# Altium schematic symbol library 1.6 - MAX系列芯片.SchLib: 28 symbols
Pins are listed as number, name and electrical type; pins without a type are passive.

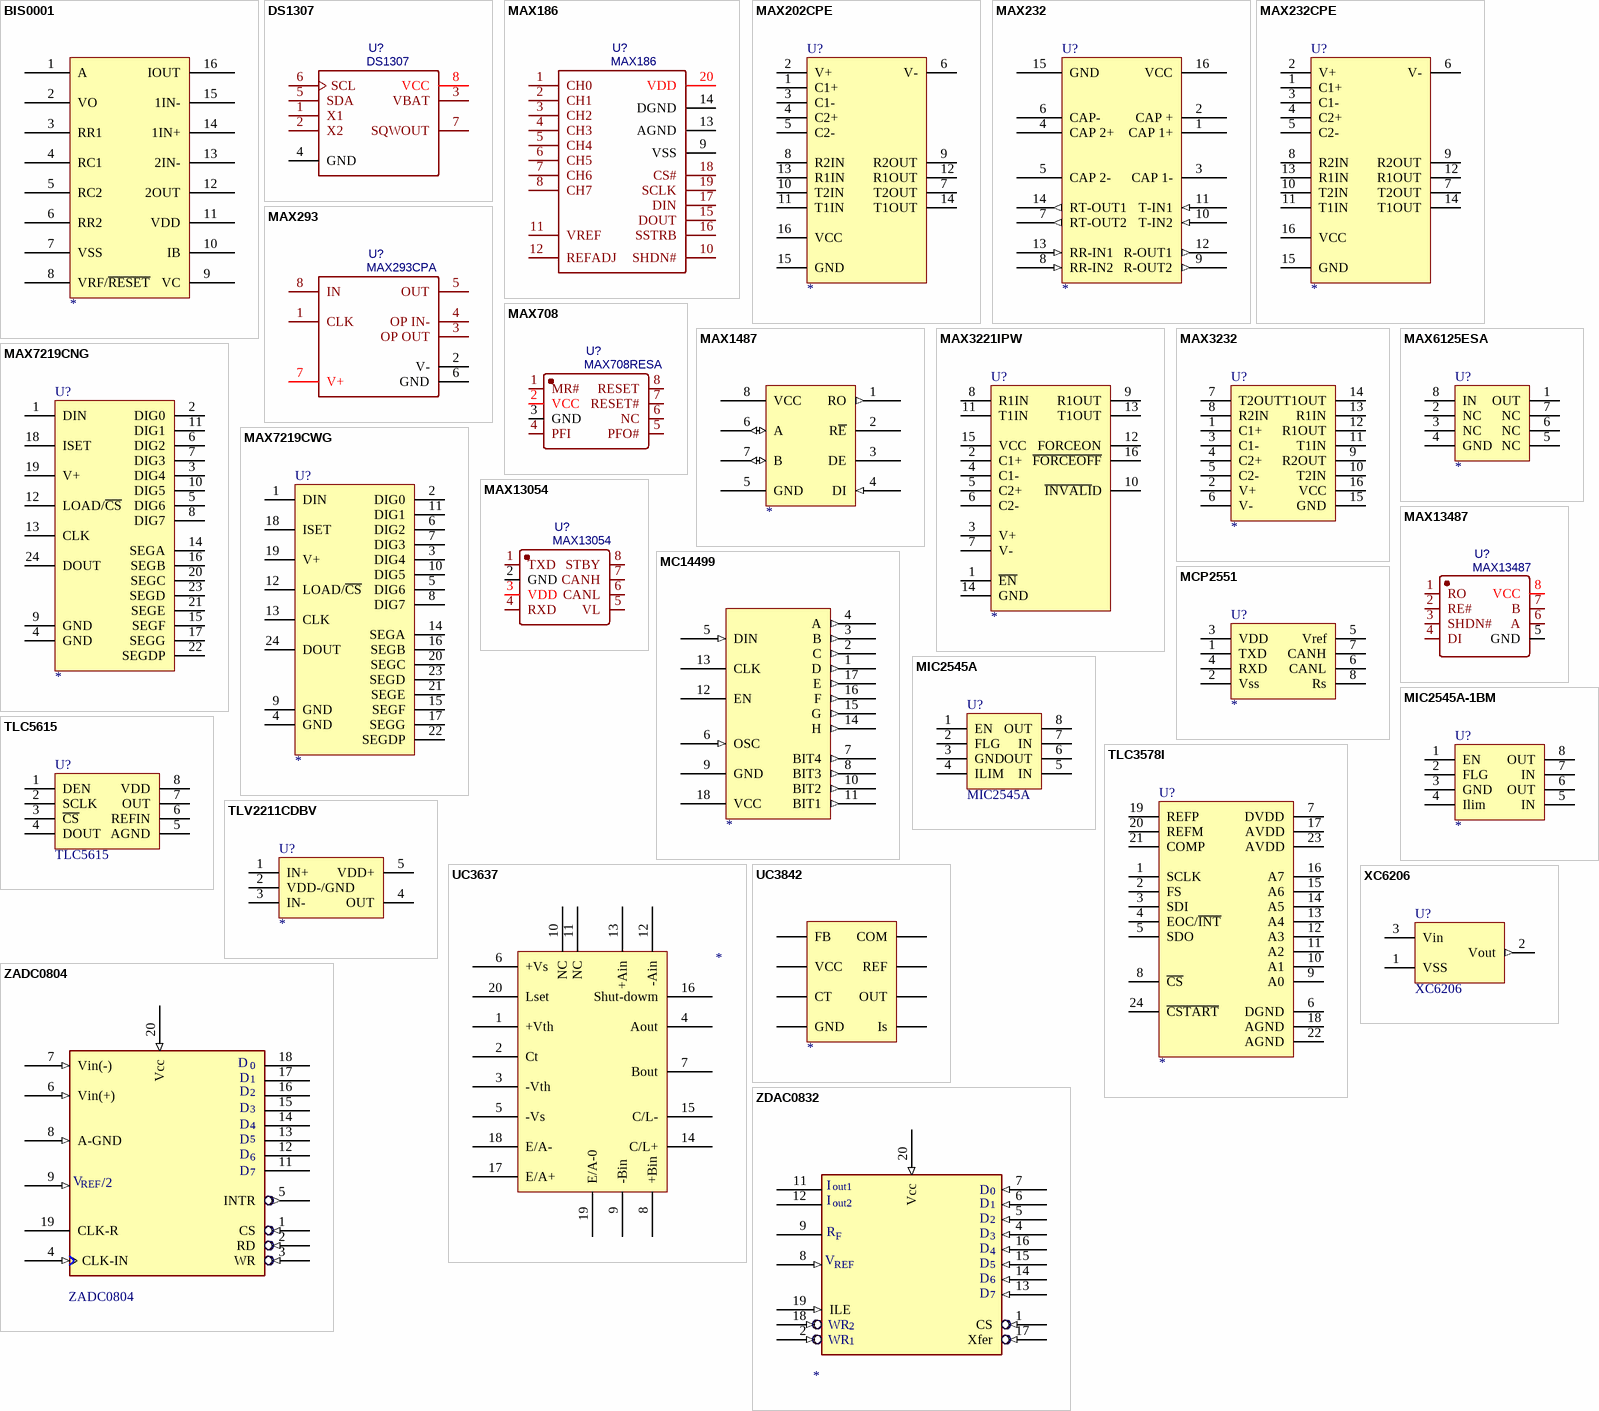
[diagram p0: symbols BIS0001 to ZDAC0832]

## BIS0001
designator ?
封装库来自淘宝卖家ID：黄晶宝石: 其他店铺购入均为盗版封装库，请立即申请退款，本店现金奖励20~200元
footprint SOP16_N (10.3*6.2*1.8mm（长宽高）封装库来自淘宝卖家 ID：黄晶宝石)
pins: 1 A, 2 VO, 3 RR1, 4 RC1, 5 RC2, 6 RR2, 7 VSS, 8 VRF/~{RESET}, 9 VC, 10 IB, 11 VDD, 12 2OUT, 13 2IN-, 14 1IN+, 15 1IN-, 16 IOUT

## DS1307
designator U?
封装库来自淘宝卖家ID：黄晶宝石: 其他店铺购入均为盗版封装库，请立即申请退款，本店现金奖励20~200元
footprint DIP8-300 (9.4*7.6*3.8(长宽高）)
pins: 1 X1, 2 X2, 3 VBAT, 4 GND, 5 SDA, 6 SCL, 7 SQWOUT, 8 VCC

## MAX186
designator U?
BOM_Manufacturer Part: MAX186CCWP; 封装库来自淘宝卖家ID：黄晶宝石: 其他店铺购入均为盗版封装库，请立即申请退款，本店现金奖励20~200元
footprint SOIC-20W (封装库来自淘宝卖家 ID：黄晶宝石)
pins: 1 CH0, 2 CH1, 3 CH2, 4 CH3, 5 CH4, 6 CH5, 7 CH6, 8 CH7, 9 VSS, 10 SHDN#, 11 VREF, 12 REFADJ, 13 AGND, 14 DGND, 15 DOUT, 16 SSTRB, 17 DIN, 18 CS#, 19 SCLK, 20 VDD

## MAX202CPE
designator U?
通讯IC; 封装库来自淘宝卖家ID：黄晶宝石: 其他店铺购入均为盗版封装库，请立即申请退款，本店现金奖励20~200元
footprint DIP-16 (19.3*7.6*3.8(长宽高）)
pins: 1 C1+, 2 V+, 3 C1-, 4 C2+, 5 C2-, 6 V-, 7 T2OUT, 8 R2IN, 9 R2OUT, 10 T2IN, 11 T1IN, 12 R1OUT, 13 R1IN, 14 T1OUT, 15 GND (power), 16 VCC (power)

## MAX232
designator U?
通讯IC; 封装库来自淘宝卖家ID：黄晶宝石: 其他店铺购入均为盗版封装库，请立即申请退款，本店现金奖励20~200元
footprint SOP16_M (Footprint not found)
pins: 1 CAP 1+, 2 CAP +, 3 CAP 1-, 4 CAP 2+, 5 CAP 2-, 6 CAP-, 7 RT-OUT2 (out), 8 RR-IN2 (in), 9 R-OUT2 (out), 10 T-IN2 (in), 11 T-IN1 (in), 12 R-OUT1 (out), 13 RR-IN1 (in), 14 RT-OUT1 (out), 15 GND (power), 16 VCC (power)

## MAX232CPE
designator U?
通讯IC; 封装库来自淘宝卖家ID：黄晶宝石: 其他店铺购入均为盗版封装库，请立即申请退款，本店现金奖励20~200元
footprint DIP-16 (淘宝ID:黄晶宝石   店铺网址:https://shop463601444.taobao.com)
pins: 1 C1+, 2 V+, 3 C1-, 4 C2+, 5 C2-, 6 V-, 7 T2OUT, 8 R2IN, 9 R2OUT, 10 T2IN, 11 T1IN, 12 R1OUT, 13 R1IN, 14 T1OUT, 15 GND (power), 16 VCC (power)

## MAX293
designator U?, comment MAX293CPA
BOM_Manufacturer Part: MAX293CPA+; 封装库来自淘宝卖家ID：黄晶宝石: 其他店铺购入均为盗版封装库，请立即申请退款，本店现金奖励20~200元
footprint DIP8-300 (9.4*7.6*3.8(长宽高）)
pins: 1 CLK, 2 V-, 3 OP OUT, 4 OP IN-, 5 OUT, 6 GND, 7 V+, 8 IN

## MAX708
designator U?, comment MAX708RESA
BOM_Manufacturer Part: MAX708RESA-TG; 封装库来自淘宝卖家ID：黄晶宝石: 其他店铺购入均为盗版封装库，请立即申请退款，本店现金奖励20~200元
footprint SOIC-8 (封装库来自淘宝卖家 ID：黄晶宝石，其他均为盗版)
pins: 1 MR#, 2 VCC, 3 GND, 4 PFI, 5 PFO#, 6 NC, 7 RESET#, 8 RESET

## MAX1487
designator ?
封装库来自淘宝卖家ID：黄晶宝石: 其他店铺购入均为盗版封装库，请立即申请退款，本店现金奖励20~200元
footprint SOP8_N (5*6*1.8mm（长宽高）封装库来自淘宝卖家 ID：黄晶宝石)
pins: 1 RO (out), 2 R~{E}, 3 DE, 4 DI (in), 5 GND (power), 6 A (io), 7 B (io), 8 VCC (power)

## MAX3221IPW
designator U?
通讯IC; 封装库来自淘宝卖家ID：黄晶宝石: 其他店铺购入均为盗版封装库，请立即申请退款，本店现金奖励20~200元
footprint TSSOP-16
pins: 1 ~{EN}, 2 C1+, 3 V+, 4 C1-, 5 C2+, 6 C2-, 7 V-, 8 R1IN, 9 R1OUT, 10 ~{INVALI}D, 11 T1IN, 12 FORCEON, 13 T1OUT, 14 GND (power), 15 VCC (power), 16 ~{FORCEOFF}

## MAX3232
designator U?
communication  IC; 封装库来自淘宝卖家ID：黄晶宝石: 其他店铺购入均为盗版封装库，请立即申请退款，本店现金奖励20~200元
footprint TSSOP16
pins: 1 C1+, 2 V+, 3 C1-, 4 C2+, 5 C2-, 6 V-, 7 T2OUT, 8 R2IN, 9 R2OUT, 10 T2IN, 11 T1IN, 12 R1OUT, 13 R1IN, 14 T1OUT, 15 GND (power), 16 VCC (power)

## MAX6125ESA
designator U?
CI-MAX6125ESA; 封装库来自淘宝卖家ID：黄晶宝石: 其他店铺购入均为盗版封装库，请立即申请退款，本店现金奖励20~200元
footprint SO-8N
pins: 1 OUT, 2 NC, 3 NC, 4 GND (power), 5 NC, 6 NC, 7 NC, 8 IN

## MAX7219CNG
designator U?
CI-MAX7219CNG; 封装库来自淘宝卖家ID：黄晶宝石: 其他店铺购入均为盗版封装库，请立即申请退款，本店现金奖励20~200元
footprint DIP-24 (31*7.6*3.8(长宽高）)
pins: 1 DIN, 2 DIG0, 3 DIG4, 4 GND (power), 5 DIG6, 6 DIG2, 7 DIG3, 8 DIG7, 9 GND (power), 10 DIG5, 11 DIG1, 12 LOAD/~{CS}, 13 CLK, 14 SEGA, 15 SEGF, 16 SEGB, 17 SEGG, 18 ISET, 19 V+ (power), 20 SEGC, 21 SEGE, 22 SEGDP, 23 SEGD, 24 DOUT

## MAX7219CWG
designator U?
CI-MAX7219CWG; 封装库来自淘宝卖家ID：黄晶宝石: 其他店铺购入均为盗版封装库，请立即申请退款，本店现金奖励20~200元
footprint SO-24W (封装库来自淘宝卖家 ID：黄晶宝石)
pins: 1 DIN, 2 DIG0, 3 DIG4, 4 GND (power), 5 DIG6, 6 DIG2, 7 DIG3, 8 DIG7, 9 GND (power), 10 DIG5, 11 DIG1, 12 LOAD/~{CS}, 13 CLK, 14 SEGA, 15 SEGF, 16 SEGB, 17 SEGG, 18 ISET, 19 V+ (power), 20 SEGC, 21 SEGE, 22 SEGDP, 23 SEGD, 24 DOUT

## MAX13054
designator U?
BOM_Manufacturer Part: MAX13054AEASA+; 封装库来自淘宝卖家ID：黄晶宝石: 其他店铺购入均为盗版封装库，请立即申请退款，本店现金奖励20~200元
footprint SOIC-8 (封装库来自淘宝卖家 ID：黄晶宝石，其他均为盗版)
pins: 1 TXD, 2 GND, 3 VDD, 4 RXD, 5 VL, 6 CANL, 7 CANH, 8 STBY

## MAX13487
designator U?
BOM_Manufacturer Part: MAX13487EESA; 封装库来自淘宝卖家ID：黄晶宝石: 其他店铺购入均为盗版封装库，请立即申请退款，本店现金奖励20~200元
footprint SOIC-8 (封装库来自淘宝卖家 ID：黄晶宝石，其他均为盗版)
pins: 1 RO, 2 RE#, 3 SHDN#, 4 DI, 5 GND, 6 A, 7 B, 8 VCC

## MC14499
designator ?
封装库来自淘宝卖家ID：黄晶宝石: 其他店铺购入均为盗版封装库，请立即申请退款，本店现金奖励20~200元
footprint DIP18-300 (23*7.6*3.8(长宽高） 淘宝ID:黄晶宝石   店铺网址:https://shop463601444.taobao.com)
pins: 1 D (out), 2 C (out), 3 B (out), 4 A (out), 5 DIN (in), 6 OSC (in), 7 BIT4 (out), 8 BIT3 (out), 9 GND (power), 10 BIT2 (out), 11 BIT1 (out), 12 EN, 13 CLK, 14 H (out), 15 G (out), 16 F (out), 17 E (out), 18 VCC (power)

## MCP2551
designator U?
CAN收发器; 封装库来自淘宝卖家ID：黄晶宝石: 其他店铺购入均为盗版封装库，请立即申请退款，本店现金奖励20~200元
footprint SO-8N
footprint DIP-8 (9.4*7.6*3.8(长宽高）)
pins: 1 TXD, 2 Vss, 3 VDD, 4 RXD (power), 5 Vref, 6 CANL, 7 CANH, 8 Rs (power)

## MIC2545A
designator U?
IC; 封装库来自淘宝卖家ID：黄晶宝石: 其他店铺购入均为盗版封装库，请立即申请退款，本店现金奖励20~200元
footprint DIP8-300 (9.4*7.6*3.8(长宽高）)
simulation model VRES (Variable Resistor)
signal-integrity model Res Adj
pins: 1 EN, 2 FLG, 3 GND, 4 ILIM, 5 IN, 6 OUT, 7 IN, 8 OUT

## MIC2545A-1BM
designator U?
CI-MIC2545A-1BM; 封装库来自淘宝卖家ID：黄晶宝石: 其他店铺购入均为盗版封装库，请立即申请退款，本店现金奖励20~200元
footprint SO-8N
pins: 1 EN, 2 FLG, 3 GND (power), 4 Ilim, 5 IN, 6 OUT, 7 IN, 8 OUT

## TLC3578I
designator U?
CI-TLC3578I; 封装库来自淘宝卖家ID：黄晶宝石: 其他店铺购入均为盗版封装库，请立即申请退款，本店现金奖励20~200元
footprint SO-24W
pins: 1 SCLK, 2 FS, 3 SDI, 4 EOC/~{INT}, 5 SDO, 6 DGND, 7 DVDD, 8 ~{CS}, 9 A0, 10 A1, 11 A2, 12 A3, 13 A4, 14 A5, 15 A6, 16 A7, 17 AVDD, 18 AGND, 19 REFP, 20 REFM, 21 COMP, 22 AGND, 23 AVDD, 24 ~{CSTART}

## TLC5615
designator U?
封装库来自淘宝卖家ID：黄晶宝石: 其他店铺购入均为盗版封装库，请立即申请退款，本店现金奖励20~200元
footprint SO-8N
pins: 1 DEN, 2 SCLK, 3 ~{CS}, 4 DOUT (power), 5 AGND, 6 REFIN, 7 OUT (power), 8 VDD

## TLV2211CDBV
designator U?
CI-TLV2211CDBV; 封装库来自淘宝卖家ID：黄晶宝石: 其他店铺购入均为盗版封装库，请立即申请退款，本店现金奖励20~200元
footprint SOT-25
pins: 1 IN+, 2 VDD-/GND (power), 3 IN-, 4 OUT, 5 VDD+

## UC3637
designator ?
封装库来自淘宝卖家ID：黄晶宝石: 其他店铺购入均为盗版封装库，请立即申请退款，本店现金奖励20~200元
footprint DIP18-300 (23*7.6*3.8(长宽高） 淘宝ID:黄晶宝石   店铺网址:https://shop463601444.taobao.com)
pins: 1 +Vth, 2 Ct, 3 -Vth, 4 Aout, 5 -Vs, 6 +Vs, 7 Bout, 8 +Bin, 9 -Bin, 10 NC, 11 NC, 12 -Ain, 13 +Ain, 14 C/L+, 15 C/L-, 16 Shut-dowm, 17 E/A+, 18 E/A-, 19 E/A-0, 20 Lset

## UC3842
designator ?
封装库来自淘宝卖家ID：黄晶宝石: 其他店铺购入均为盗版封装库，请立即申请退款，本店现金奖励20~200元
footprint DIP8-300 (9.4*7.6*3.8(长宽高）)
pins: 1 COM, 2 FB, 3 Is, 4 CT, 5 GND, 6 OUT, 7 VCC, 8 REF

## XC6206
designator U?
3.3V; 封装库来自淘宝卖家ID：黄晶宝石: 其他店铺购入均为盗版封装库，请立即申请退款，本店现金奖励20~200元
footprint SOT23-3N (SOT23, 3-Leads, Body 2.9x1.3mm, Pitch 0.95mm, Lead Span 2.4mm, IPC Medium Density)
pins: 1 VSS (power), 2 Vout (out), 3 Vin (power)

## ZADC0804
designator ?
封装库来自淘宝卖家ID：黄晶宝石: 其他店铺购入均为盗版封装库，请立即申请退款，本店现金奖励20~200元
footprint DIP20-300 (26.4*7.6*3.8(长宽高）淘宝ID:黄晶宝石   店铺网址:https://shop463601444.taobao.com)
pins: 1 CS (in), 2 RD (in), 3 WR (in), 4 CLK-IN (in), 5 INTR (out), 6 Vin(+) (in), 7 Vin(-) (in), 8 A-GND (in), 9 Vref/2 (in), 10 GND (power) hidden to GND, 11 msbDB7 (hiz), 12 DB6 (hiz), 13 DB5 (hiz), 14 DB4 (hiz), 15 DB3 (hiz), 16 DB2 (hiz), 17 DB1 (hiz), 18 lsbDB0 (hiz), 19 CLK-R, 20 Vcc (in)
text: D; 0; V; REF; /2

## ZDAC0832
designator ?
封装库来自淘宝卖家ID：黄晶宝石: 其他店铺购入均为盗版封装库，请立即申请退款，本店现金奖励20~200元
footprint DIP20-300 (26.4*7.6*3.8(长宽高）淘宝ID:黄晶宝石   店铺网址:https://shop463601444.taobao.com)
pins: 1 CS (in), 2 WR1 (in), 3 GND (power) hidden to GND, 4 DI3 (in), 5 DI2 (in), 6 DI1 (in), 7 lsbDI0 (in), 8 Vref (in), 9 Rfb, 10 GND (power) hidden to GND, 11 Iout1, 12 Iout2, 13 msbDI7 (in), 14 DI6 (in), 15 DI5 (in), 16 DI4 (in), 17 Xfer (in), 18 WR2 (in), 19 ILE (in), 20 Vcc (in)
text: I; out1; D; 0; out2; R; F; V; REF; WR